# Altium schematic symbol library Schematic.SchLib: 21 symbols
Pins are listed as number, name and electrical type; pins without a type are passive.

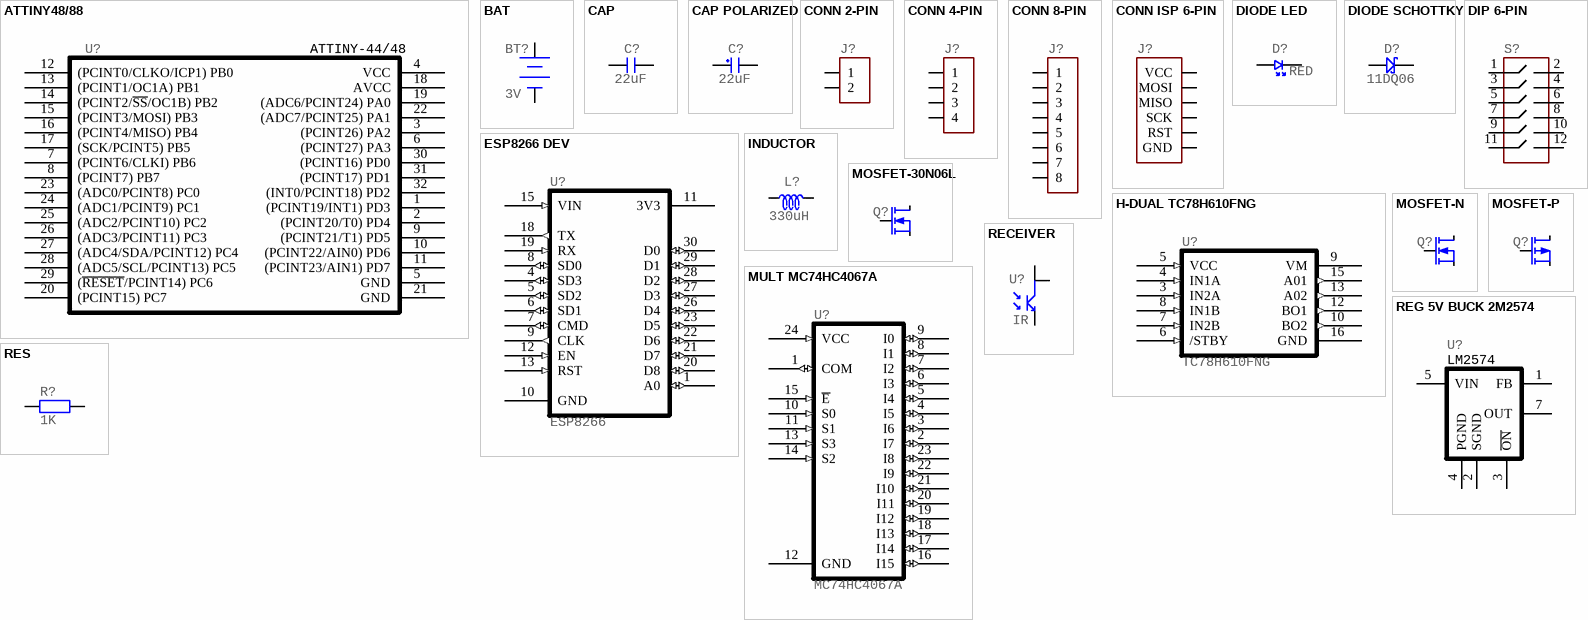
[diagram p0: symbols ATTINY48/88 to RES]

## ATTINY48/88
designator U?  (value not drawn)
pins: 1 (PCINT19/INT1) PD3, 2 (PCINT20/T0) PD4, 3 (PCINT26) PA2, 4 VCC, 5 GND, 6 (PCINT27) PA3, 7 (PCINT6/CLKI) PB6, 8 (PCINT7) PB7, 9 (PCINT21/T1) PD5, 10 (PCINT22/AIN0) PD6, 11 (PCINT23/AIN1) PD7, 12 (PCINT0/CLKO/ICP1) PB0, 13 (PCINT1/OC1A) PB1, 14 (PCINT2/~{SS}/OC1B) PB2, 15 (PCINT3/MOSI) PB3, 16 (PCINT4/MISO) PB4, 17 (SCK/PCINT5) PB5, 18 AVCC, 19 (ADC6/PCINT24) PA0, 20 (PCINT15) PC7, 21 GND, 22 (ADC7/PCINT25) PA1, 23 (ADC0/PCINT8) PC0, 24 (ADC1/PCINT9) PC1, 25 (ADC2/PCINT10) PC2, 26 (ADC3/PCINT11) PC3, 27 (ADC4/SDA/PCINT12) PC4, 28 (ADC5/SCL/PCINT13) PC5, 29 (~{RESET}/PCINT14) PC6, 30 (PCINT16) PD0, 31 (PCINT17) PD1, 32 (INT0/PCINT18) PD2
text: ATTINY-44/48

## BAT
designator BT?  Voltage: 3V  (hidden comment: *)
Battery
pins: 1, 2

## CAP
designator C?  value 22uF
Capacitor
footprint Cap Radial Small
pins: 1, 2

## CAP POLARIZED
designator C?  value 22uF
Polarized Capacitor
footprint Cap Polarized Radial Small
pins: A, K

## CONN 2-PIN
designator J?  (value not drawn)
footprint Header 2x1
pins: 1, 2

## CONN 4-PIN
designator J?  (value not drawn)
pins: 1, 2, 3, 4

## CONN 8-PIN
designator J?  (value not drawn)
pins: 1, 2, 3, 4, 5, 6, 7, 8

## CONN ISP 6-PIN
designator J?  (value not drawn)
pins: 1 MISO, 2 VCC, 3 SCK, 4 MOSI, 5 RST, 6 GND

## DIODE LED
designator D?  Color: RED
LED
footprint Diode
pins: A 1, K 2

## DIODE SCHOTTKY
designator D?  PN: 11DQ06
Schottky Diode
footprint Diode
pins: A 1, K 2

## DIP 6-PIN
designator S?  (value not drawn)
pins: 1, 2, 3, 4, 5, 6, 7, 8, 9, 10, 11, 12

## ESP8266 DEV
designator U?, comment ESP8266
ESP8266 Dev Shield
footprint NODEMCU
pins: 1 A0 (io), 2 NC hidden, 3 NC hidden, 4 SD3 (io), 5 SD2 (io), 6 SD1 (io), 7 CMD (io), 8 SD0 (io), 9 CLK (out), 10 GND, 11 3V3 (power), 12 EN (in), 13 RST (in), 14 GND hidden to GND, 15 VIN (in), 16 3V3 (power) hidden, 17 GND hidden to GND, 18 TX (out), 19 RX (in), 20 D8 (io), 21 D7 (io), 22 D6 (io), 23 D5 (io), 24 GND hidden to GND, 25 3V3 (power) hidden, 26 D4 (io), 27 D3 (io), 28 D2 (io), 29 D1 (io), 30 D0 (io)

## H-DUAL TC78H610FNG
designator U?, comment TC78H610FNG
Dual H-Bridge 3V3/5V control, 6-18V, 1A; Manufacturer: Toshiba; Manufacturer Part Number: TC78H610FNG,EL; Operating Frequency: 500 kHz; Output Current: 880 mA; Operating Supply Current: 500 uA; Operating Supply Voltage: 2.7 V to 5.5 V; Motor Type - AC, DC: Brushed DC; Function: Driver - Fully Integrated, Control and Power Stage; Output Configuration: Half Bridge (2); Interface: Parallel; Current - Output: 800mA; Voltage - Supply: 2.7 V ~ 5.5 V; Voltage - Load: 2.5 V ~ 15 V; RoHS: RoHS Compliant; Category: Motor / Motion / Ignition Controllers & Drivers; Operating Temperature Range: - 20 C to + 85 C; Package / Case: SSOP-16; Packaging: Cut Tape; Product: Brushed DC Motor Drivers; Series: TC78H610; Type: Dual H-Bridge Driver; Brand: Toshiba; Mounting Style: SMD/SMT; Maximum Operating Temperature: + 85 C; Minimum Operating Temperature: - 20 C; Standard Pack Qty: 2000; RoHS - Mouser: Y; Minimum Order Quantity: 1; Reeling: True; ComponentLink1URL: https://www.mouser.com/ds/2/408/TC78H610FNG_datasheet_en_20161125-1140102.pdf; ComponentLink1Description: https://www.mouser.com/ds/2/408/TC78H610FNG_datasheet_en_20161125-1140102.pdf; Part Status: Discontinued at Digi-Key; Motor Type - Stepper: -; Technology: DMOS; Step Resolution: -; Applications: General Purpose; Operating Temperature: -20°C ~ 85°C (TA); Mounting Type: Surface Mount; Supplier Device Package: 16-SSOP; ComponentLink2URL: https://toshiba.semicon-storage.com/info/docget.jsp?did=15073&prodName=TC78H610FNG; ComponentLink2Description: https://toshiba.semicon-storage.com/info/docget.jsp?did=15073&prodName=TC78H610FNG
pins: 1 NC hidden, 2 NC hidden, 3 IN2A (in), 4 IN1A (in), 5 VCC (in), 6 /STBY (in), 7 IN2B (in), 8 IN1B (in), 9 VM (power) "Motor Supply Voltage", 10 BO2 (out), 11 GND hidden to GND, 12 BO1 (out), 13 A02 (out), 14 GND hidden to GND, 15 A01 (out), 16 GND

## INDUCTOR
designator L?  value 330uH
Inductor
footprint RES
pins: 1, 2

## MOSFET-30N06L
designator Q?  (value not drawn)
N-Channel MOSFET
footprint MOSFET N THT
pins: 1 D, 2 G, 3 S

## MOSFET-N
designator Q?  (value not drawn)
N-Channel MOSFET
pins: 1 D, 2 G, 3 S

## MOSFET-P
designator Q?  (value not drawn)
P-Channel MOSFET
pins: 1 D, 2 G, 3 S

## MULT MC74HC4067A
designator U?, comment MC74HC4067A
4-to-16 3V3/5V (De)multiplexer; Manufacturer: ON Semiconductor; Manufacturer Part Number: MC74HC4067ADWG; Configuration: 4 x SPST; Supply Type: Single Supply; Off Time - Max: 47 ns; On Resistance - Max: 140 Ohms; Supply Current - Max: 4 uA; Number of Switches: 4 Switch; Operating Supply Voltage: 2 V to 6 V; Pd - Power Dissipation: 500 mW (1/2 W); Supply Voltage - Max: 6 V; Supply Voltage - Min: 2 V; Switch Continuous Current: 25 mA; RoHS: RoHS Compliant; Category: Analog Switch ICs; Package / Case: SOIC-24; Packaging: Tube; Series: MC74HC4067A; Brand: ON Semiconductor; Mounting Style: SMD/SMT; On Time - Max: 47 ns; Maximum Operating Temperature: + 125 C; Minimum Operating Temperature: - 55 C; Moisture Sensitive: Yes; Standard Pack Qty: 30; Switch Voltage - Max: 6 V; RoHS - Mouser: Y; Minimum Order Quantity: 1; Reeling: False; ComponentLink1URL: https://www.mouser.com/ds/2/308/MC74HC4067A-D-97014.pdf; ComponentLink1Description: https://www.mouser.com/ds/2/308/MC74HC4067A-D-97014.pdf
pins: 1 COM (io), 2 I7 (io), 3 I6 (io), 4 I5 (io), 5 I4 (io), 6 I3 (io), 7 I2 (io), 8 I1 (io), 9 I0 (io), 10 S0 (in), 11 S1 (in), 12 GND, 13 S3 (in), 14 S2 (in), 15 ~{E} (in), 16 I15 (io), 17 I14 (io), 18 I13 (io), 19 I12 (io), 20 I11 (io), 21 I10 (io), 22 I9 (io), 23 I8 (io), 24 VCC (in)

## RECEIVER
designator U?  Color: IR
IR/Visible Receiver
pins: 1 OUT, 2 GND, 3 VCC (power)

## REG 5V BUCK 2M2574
designator U?  (value not drawn)
5V Buck Regulator IC
footprint PDIP8
pins: 1 FB "Feedback", 2 SGND, 3 ~{ON}, 4 PGND, 5 VIN, 7 OUT
text: LM2574

## RES
designator R?  value 1K
Resistor
footprint RES
pins: 1, 2